# EAGLE library part HBRIDGE (library hbridge)
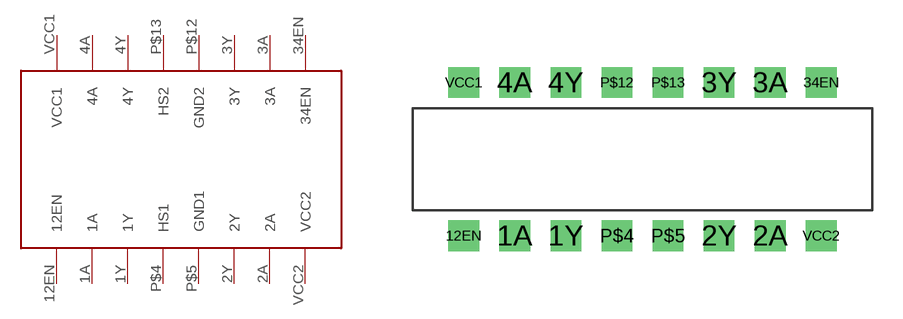
[diagram p0: symbol with the pads of HBRIDGE; footprint HBRIDGE]

Designator prefix -

## HBRIDGE  [HBRIDGE]
1A  1A
1Y  1Y
2A  2A
2Y  2Y
3A  3A
3Y  3Y
4A  4A
4Y  4Y
12EN  12EN
34EN  34EN
P$4  HS1
P$5  GND1
P$12  GND2
P$13  HS2
VCC1  VCC1
VCC2  VCC2

## Footprint HBRIDGE (pad centres in mm)
drill 1.016 square: 1A -3.81,-2.54; 1Y -1.27,-2.54; 2A 8.89,-2.54; 2Y 6.35,-2.54; 3A 8.89,5.08; 3Y 6.35,5.08; 4A -3.81,5.08; 4Y -1.27,5.08; 12EN -6.35,-2.54; 34EN 11.43,5.08; P$4 1.27,-2.54; P$5 3.81,-2.54; P$12 1.27,5.08; P$13 3.81,5.08; VCC1 -6.35,5.08; VCC2 11.43,-2.54